# Altium integrated library TW-03-12-L-S-765-200.IntLib: 1 symbol
Pins are listed as number, name and electrical type; pins without a type are passive.

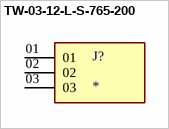
[diagram p0: symbol TW-03-12-L-S-765-200]

## TW-03-12-L-S-765-200
designator J?
CONN BRD STACK 2.00 3POS; MP: TW-03-12-L-S-765-200; MF: Samtec; SnapEDA_Link: https://www.snapeda.com/parts/TW-03-12-L-S-765-200/Samtec/view-part/3584672/?ref=snap; Purchase-URL: https://pricing.snapeda.com/search/part/TW-03-12-L-S-765-200/?ref=eda; Value: *; Availability: Warning; Check_prices: https://www.snapeda.com/parts/TW-03-12-L-S-765-200/Samtec/view-part/3584672/?ref=eda; Package: None; Price: None
footprint SAMTEC_TW-03-12-L-S-765-200
pins: 01, 02, 03